# Altium footprint library A4988 Module Headers.PcbLib: 1 footprints
Each footprint in its own frame and in the unit in brackets; x right, y up, seen from the top. Pads: shape width x height; smd on the part's side, far side on the other; paste and mask are expansions set on the pad; w line width, h text height; cw(c..) or ccw(c..) is an arc to the next point about the centre after c.
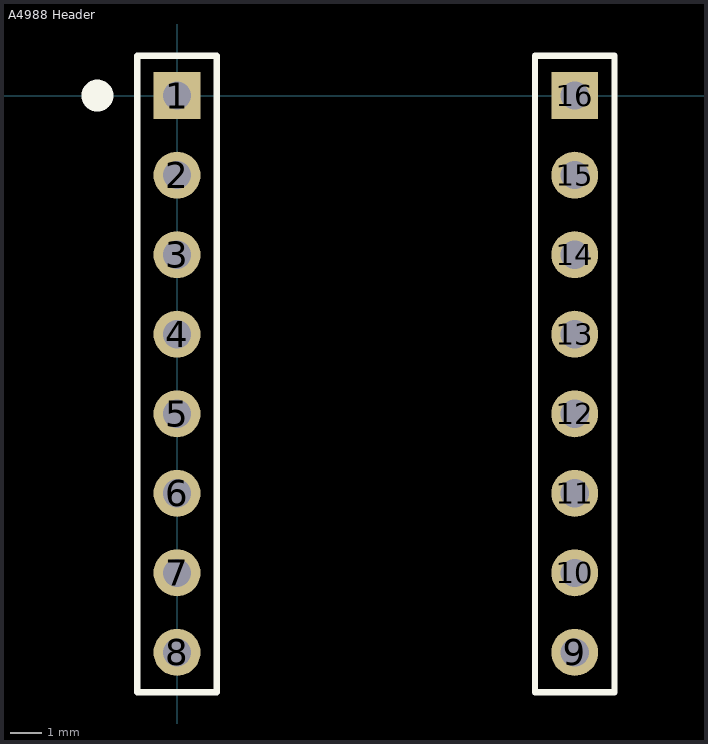
[diagram p0: the footprint, top view; thin cyan lines are the x and y axes]

## A4988 Header [mm] "A4988 Header"
pads (16):
  rect 1.5x1.5 hole 0.9: 1(0,0) 16(12.7,0)
  round 1.5 hole 0.9: 2(0,-2.54) 3(0,-5.08) 4(0,-7.62) 5(0,-10.16) 6(0,-12.7) 7(0,-15.24) 8(0,-17.78) 9(12.7,-17.78) 10(12.7,-15.24) 11(12.7,-12.7) 12(12.7,-10.16) 13(12.7,-7.62) 14(12.7,-5.08) 15(12.7,-2.54)
Top Overlay:
  circle w0.762: c-2.54,0 r0.127
  lines w0.2: -1.27,-19.05 -1.27,1.27 1.27,1.27 1.27,-19.05 -1.27,-19.05 ; 11.43,-19.05 13.97,-19.05 13.97,1.27 11.43,1.27 11.43,-19.05
3D body: height 11.54, standoff 1.38, extent -1.27,-19.05 13.97,1.27
3D body: height 8.3, standoff 0, extent -1.27,-19.05 1.27,1.27
3D body: height 8.3, standoff 0, extent 11.43,-19.05 13.97,1.27